# EAGLE library part BQ25570RGRR (library weather_station)
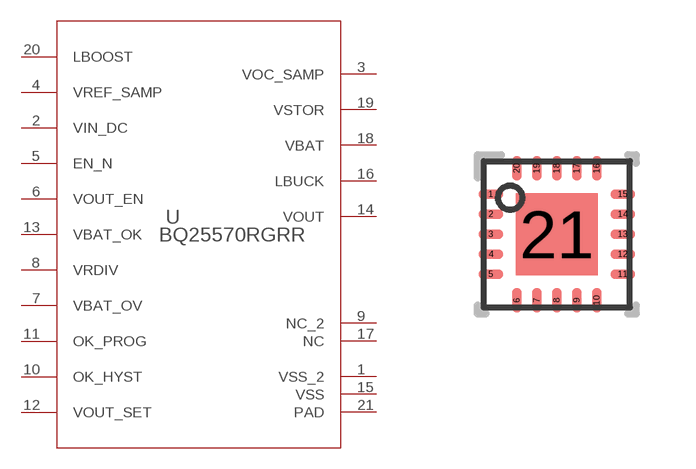
[diagram p5: symbol with the pads of RGR0020A; footprint RGR0020A]

Designator prefix U

## BQ25570RGRR (ALTERNATEPARTNUMBER: BQ25570RGRT; APPLICATION_BUILDNUMBER: *; COMPTYPE: IC; MANUFACTURER: Texas Instruments; MOUNTTYPE: SMT; PACKAGEREFERENCE: RGR0020A; PARTNUMBER: BQ25570RGRR; PIN_COUNT: 21; REFDES: RefDes; ROHS: Y; TYPE: TYPE; VALUE: Value)  [RGR0020A]
1  VSS_2  pwr
2  VIN_DC  pwr
3  VOC_SAMP  in
4  VREF_SAMP  in
5  EN_N  in
6  VOUT_EN  in
7  VBAT_OV  in
8  VRDIV  out
9  NC_2  pwr
10  OK_HYST  in
11  OK_PROG  in
12  VOUT_SET  in
13  VBAT_OK  out
14  VOUT  pwr
15  VSS  pwr
16  LBUCK  pas
17  NC  pas
18  VBAT
19  VSTOR  pwr
20  LBOOST  in
21  PAD  pwr

## Footprint RGR0020A (pad centres in mm)
smd 0.61 x 0.229: 1 -1.65,1; 2 -1.65,0.5; 3 -1.65,0; 4 -1.65,-0.5; 5 -1.65,-1; 11 1.65,-1; 12 1.65,-0.5; 13 1.65,0; 14 1.65,0.5; 15 1.65,1
smd 0.229 x 0.61: 6 -1,-1.65; 7 -0.5,-1.65; 8 0,-1.65; 9 0.5,-1.65; 10 1,-1.65; 16 1,1.65; 17 0.5,1.65; 18 0,1.65; 19 -0.5,1.65; 20 -1,1.65
smd 2.057 x 2.057: 21 0,0